# Altium footprint library VQFN-48 (7x7).PcbLib: 1 footprints
Each footprint in its own frame and in the unit in brackets; x right, y up, seen from the top. Pads: shape width x height; smd on the part's side, far side on the other; paste and mask are expansions set on the pad; w line width, h text height; cw(c..) or ccw(c..) is an arc to the next point about the centre after c.
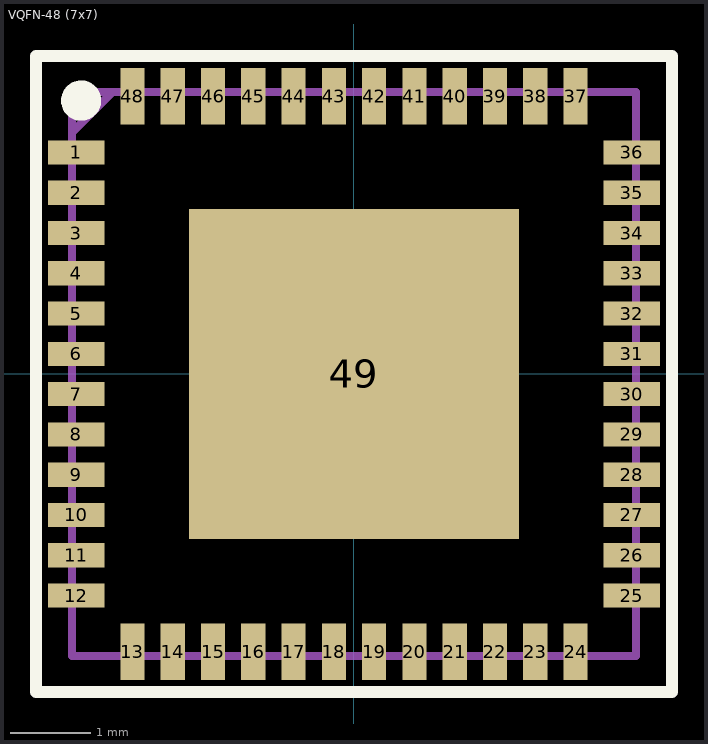
[diagram p0: the footprint, top view; thin cyan lines are the x and y axes]

## VQFN-48 (7x7) [mm]
height 0.9
pads (49):
  rect 0.7x0.3 smd mask+0.05: 1(-3.45,2.75) 2(-3.45,2.25) 3(-3.45,1.75) 4(-3.45,1.25) 5(-3.45,0.75) 6(-3.45,0.25) 7(-3.45,-0.25) 8(-3.45,-0.75) 9(-3.45,-1.25) 10(-3.45,-1.75) 11(-3.45,-2.25) 12(-3.45,-2.75) 25(3.45,-2.75) 26(3.45,-2.25) 27(3.45,-1.75) 28(3.45,-1.25) 29(3.45,-0.75) 30(3.45,-0.25) 31(3.45,0.25) 32(3.45,0.75) 33(3.45,1.25) 34(3.45,1.75) 35(3.45,2.25) 36(3.45,2.75)
  rect 0.3x0.7 smd mask+0.05: 13(-2.75,-3.45) 14(-2.25,-3.45) 15(-1.75,-3.45) 16(-1.25,-3.45) 17(-0.75,-3.45) 18(-0.25,-3.45) 19(0.25,-3.45) 20(0.75,-3.45) 21(1.25,-3.45) 22(1.75,-3.45) 23(2.25,-3.45) 24(2.75,-3.45) 37(2.75,3.45) 38(2.25,3.45) 39(1.75,3.45) 40(1.25,3.45) 41(0.75,3.45) 42(0.25,3.45) 43(-0.25,3.45) 44(-0.75,3.45) 45(-1.25,3.45) 46(-1.75,3.45) 47(-2.25,3.45) 48(-2.75,3.45)
  rect 4.1x4.1 smd mask+0.05: 49(0,0)
Top Overlay:
  circle w0.25: c-3.388,3.394 r0.125
  lines w0.15: -3.95,-3.95 3.95,-3.95 3.95,3.95 -3.95,3.95 -3.95,-3.95
Top Assembly:
  lines w0.1: -3.5,3 -3,3.5 ; -3.5,-3.5 3.5,-3.5 3.5,3.5 -3.5,3.5 -3.5,-3.5
  text "'.Designator'" at 0,0 h0.7
3D body "CDCM6208V2RGZR.stp": height 1, standoff 0, extent -3.5,-3.5 3.5,3.5